# EAGLE library part AD5241BRZ10 (library AD5241BRZ10)
I2C-Compatible,256-Position Digital Potentiometers Check prices <https://pricing.snapeda.com/parts/AD5241BRZ10/Analog%20Devices/view-part?ref=eda>
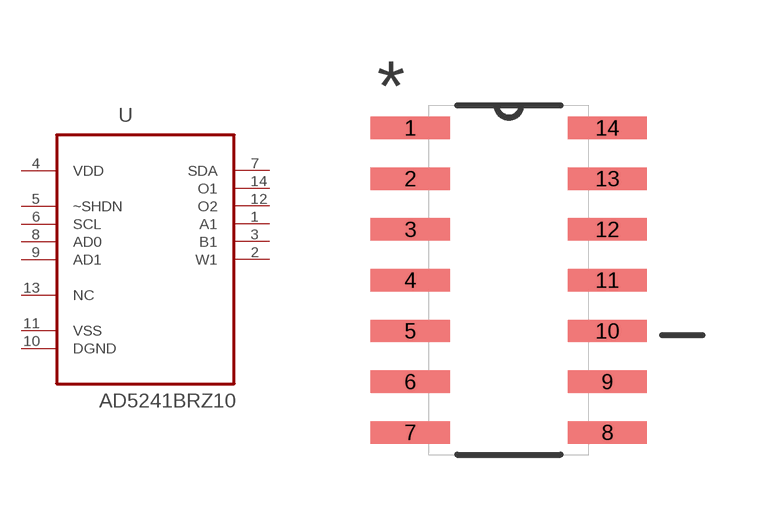
[diagram p0: symbol with the pads of SOIC127P600X175-14N; footprint SOIC127P600X175-14N]

Designator prefix U

## AD5241BRZ10 (Availability: Good; Description: Digital Potentiometer 10k Ohm 1 Circuit 256 Taps I²C Interface 14-SOIC; MF: Analog Devices; MP: AD5241BRZ10; Package: SOIC-14 Analog Devices; Price: None; Purchase-URL: https://pricing.snapeda.com/search/part/AD5241BRZ10/?ref=eda)  [SOIC127P600X175-14N]
1  A1  pas
2  W1  pas
3  B1  pas
4  VDD  pwr
5  ~SHDN  pas
6  SCL  in
7  SDA
8  AD0  in
9  AD1  in
10  DGND  pas
11  VSS  pwr
12  O2  out
13  NC  nc
14  O1  out

## Footprint SOIC127P600X175-14N (pad centres in mm)
smd 1.981 x 0.559: 1 -2.464,3.81; 2 -2.464,2.54; 3 -2.464,1.27; 4 -2.464,0; 5 -2.464,-1.27; 6 -2.464,-2.54; 7 -2.464,-3.81; 8 2.464,-3.81; 9 2.464,-2.54; 10 2.464,-1.27; 11 2.464,0; 12 2.464,1.27; 13 2.464,2.54; 14 2.464,3.81